# EAGLE library part AD590KRZ (library AD590KRZ)
Analog Devices AD590 SO8 (SOIC_N 8) Temperature Transducer
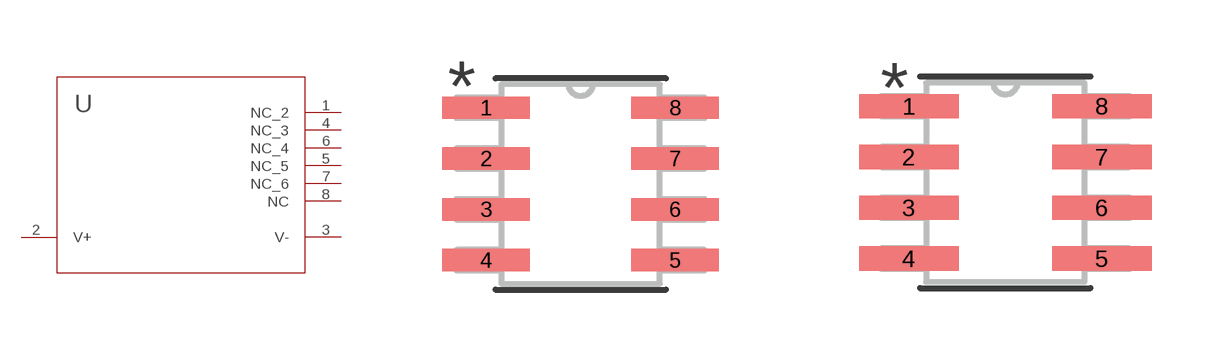
[diagram p0: symbol with the pads of R_8; footprints R_8, R_8-M]

Designator prefix U

## AD590KRZ (MANUFACTURER_PART_NUMBER: AD590KRZ; VENDOR: Analog Devices)  [R_8]
1  NC_2  pas
2  V+  pas
3  V-  pas
4  NC_3  pas
5  NC_5  pas
6  NC_4  pas
7  NC_6  pas
8  NC  pas

## AD590KRZR_8-M (MANUFACTURER_PART_NUMBER: AD590KRZ; VENDOR: Vendor)  [R_8-M]
Pads as for R_8

## AD590KRZR_8-L (MANUFACTURER_PART_NUMBER: AD590KRZ; VENDOR: Vendor)  [R_8-L]
Pads as for R_8

## Footprint R_8 (pad centres in mm)
smd 2.184 x 0.559: 1 -2.362,1.905; 2 -2.362,0.635; 3 -2.362,-0.635; 4 -2.362,-1.905; 5 2.362,-1.905; 6 2.362,-0.635; 7 2.362,0.635; 8 2.362,1.905

## Footprint R_8-M (pad centres in mm)
smd 2.489 x 0.61: 1 -2.413,1.905; 2 -2.413,0.635; 3 -2.413,-0.635; 4 -2.413,-1.905; 5 2.413,-1.905; 6 2.413,-0.635; 7 2.413,0.635; 8 2.413,1.905

## Footprint R_8-L (pad centres in mm)
smd 1.88 x 0.508: 1 -2.311,1.905; 2 -2.311,0.635; 3 -2.311,-0.635; 4 -2.311,-1.905; 5 2.311,-1.905; 6 2.311,-0.635; 7 2.311,0.635; 8 2.311,1.905